# Altium schematic symbol library TSW-101-24-S-D.SchLib: 1 symbol
Pins are listed as number, name and electrical type; pins without a type are passive.

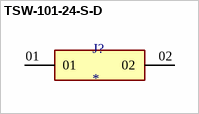
[diagram p0: symbol TSW-101-24-S-D]

## TSW-101-24-S-D
designator J?
MP: TSW-101-24-S-D; Package: None; Price: None; Value: *; Availability: Unavailable
footprint SAMTEC_TSW-101-24-S-D
pins: 01, 02